# Altium schematic symbol library BL8032CB6TR.Schlib: 1 symbol
Pins are listed as number, name and electrical type; pins without a type are passive.

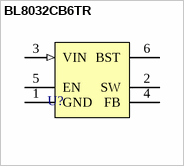
[diagram p0: symbol BL8032CB6TR]

## BL8032CB6TR
designator U?
pins: 1 GND (power), 2 SW, 3 VIN (in), 4 FB, 5 EN, 6 BST